# Altium schematic symbol library Resistor_0805.SchLib: 258 symbols (part 4 of 5)
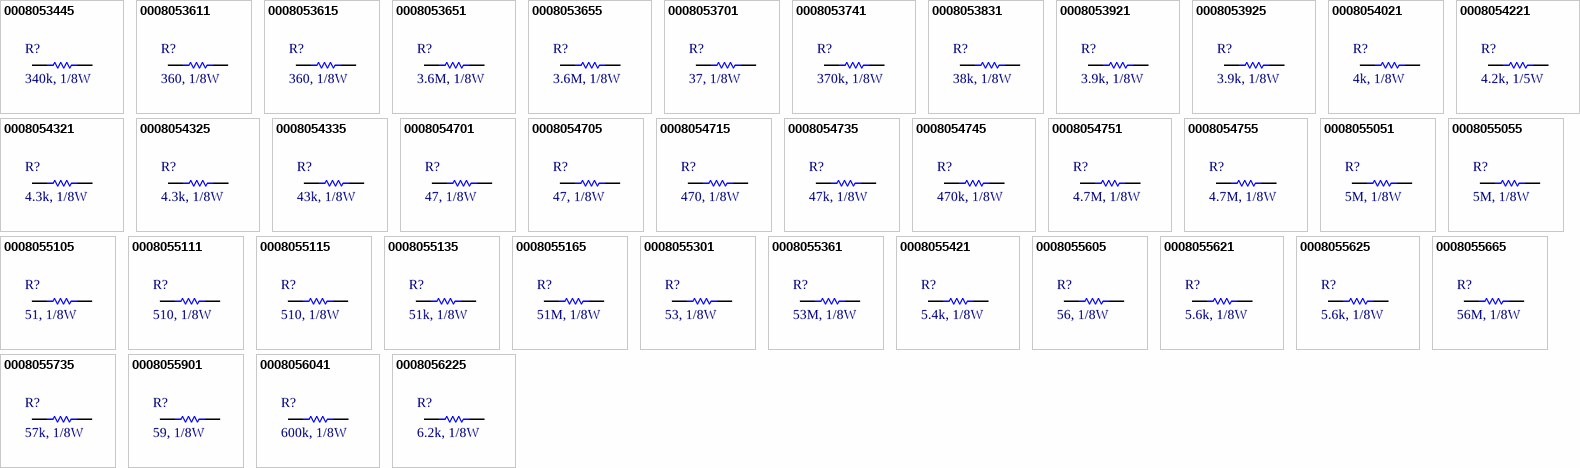
[diagram p9: symbols 0008053445 to 0008056225]

## 0008055055
designator R?, comment 5M, 1/8W
RES, 5M Ohm, size 0805, 5%; Resistance: 5 MOhms; Resistance Tolerance: +/-1%; Supply 1 Name: Mouser; Supply 1 SN: 588-HVC0805T5004JET; Supply 2 Name: Digi-Key; Supply 2 SN: HVC0805T5004JETTR-ND; Supply 3 Name: Thegioiic; Size: 0805; Rated Power: 1/8W; Supply 1 URL: https://www.mouser.vn/ProductDetail/Ohmite/HVC0805T5004JET?qs=IinxsTLir9kGxgRcWz40Rg%3D%3D; Supply 2 URL: https://www.digikey.com/en/products/detail/ohmite/HVC0805T5004JET/2709618?s=N4IgjCBcoMxaBjKAzAhgGwM4FMA0IB7KAbRACYBWABjgF18AHAFyhAGUmAnASwDsBzEAF98YMgE4I0EEkhoseQiRAxxMMgA4Q9EM1YceA4fjJUNFeDJQYc%2BIpFIUABAFkA8gAsAtpm2MWkCAAqrzcTG7ILtiomACunNjCQkJAA; Mounting Technology: SMT; Supply 3 SN: N/A; Supply 3 URL: N/A; Datasheet: N/A; Manufacture  Name: N/A; Manufacture  SN: N/A
footprint RESISTOR_0805 (Chip Resistor, 2-Leads, Body 2,00x1,20mm, IPC Medium Density)
pins: 1, 2

## 0008055105
designator R?, comment 51, 1/8W
RES, 51 Ohm, size 0805, 5%; Resistance: 51 Ohms; Resistance Tolerance: +/-1%; Supply 1 Name: Mouser; Supply 1 SN: 603-AR0805JR-0751RL; Supply 2 Name: Digi-Key; Supply 2 SN: 311-51ARTR-ND; Supply 3 Name: Thegioiic; Size: 0805; Rated Power: 1/8W; Supply 1 URL: https://www.mouser.vn/ProductDetail/YAGEO/AR0805JR-0751RL?qs=FNor9lU6pf8H%252BiQv38MEeQ%3D%3D; Supply 2 URL: https://www.digikey.com/en/products/detail/yageo/RC0805JR-0751RL/728345; Mounting Technology: SMT; Supply 3 SN: N/A; Supply 3 URL: N/A; Datasheet: N/A; Manufacture  Name: N/A; Manufacture  SN: N/A
footprint RESISTOR_0805 (Chip Resistor, 2-Leads, Body 2,00x1,20mm, IPC Medium Density)
pins: 1, 2

## 0008055111
designator R?, comment 510, 1/8W
RES, 510 Ohm, size 0805, 1%; Resistance: 510 Ohms; Resistance Tolerance: +/-1%; Supply 1 Name: Mouser; Supply 1 SN: 755-SFR10EZPF5100; Supply 2 Name: Digi-Key; Supply 2 SN: 311-510ARDKR-ND; Supply 3 Name: Thegioiic; Size: 0805; Rated Power: 1/8W; Supply 1 URL: https://www.mouser.vn/ProductDetail/ROHM-Semiconductor/SFR10EZPF5100?qs=sGAEpiMZZMtlubZbdhIBIONtIqra%2FA5YrlwGIIC%252BgoQ%3D; Supply 2 URL: https://www.digikey.com/en/products/detail/yageo/RC0805JR-07510RL/728343; Mounting Technology: SMT; Supply 3 SN: N/A; Supply 3 URL: N/A; Datasheet: N/A; Manufacture  Name: N/A; Manufacture  SN: N/A
footprint RESISTOR_0805 (Chip Resistor, 2-Leads, Body 2,00x1,20mm, IPC Medium Density)
pins: 1, 2

## 0008055115
designator R?, comment 510, 1/8W
RES, 510 Ohm, size 0805, 5%; Resistance: 510 Ohms; Resistance Tolerance: +/-1%; Supply 1 Name: Mouser; Supply 1 SN: 603-AR0805JR-07510RL; Supply 2 Name: Digi-Key; Supply 2 SN: 311-510ARTR-ND; Supply 3 Name: Thegioiic; Size: 0805; Rated Power: 1/8W; Supply 1 URL: https://www.mouser.vn/ProductDetail/YAGEO/AR0805JR-07510RL?qs=tggtontpCXM60VkCGWdMxQ%3D%3D; Supply 2 URL: https://www.digikey.com/en/products/detail/yageo/RC0805JR-07510RL/728343; Mounting Technology: SMT; Supply 3 SN: N/A; Supply 3 URL: N/A; Datasheet: N/A; Manufacture  Name: N/A; Manufacture  SN: N/A
footprint RESISTOR_0805 (Chip Resistor, 2-Leads, Body 2,00x1,20mm, IPC Medium Density)
pins: 1, 2

## 0008055135
designator R?, comment 51k, 1/8W
RES, 51k Ohm, size 0805, 5%; Resistance: 51 kOhms; Resistance Tolerance: +/-1%; Supply 1 Name: Mouser; Supply 1 SN: 603-AC0805JR-0751KL; Supply 2 Name: Digi-Key; Supply 2 SN: 311-51KARTR-ND; Supply 3 Name: Thegioiic; Size: 0805; Rated Power: 1/8W; Supply 1 URL: https://www.mouser.vn/ProductDetail/YAGEO/AC0805JR-0751KL?qs=ygRr%2FtkhteugpbacGAXg%2FA%3D%3D; Supply 2 URL: https://www.digikey.com/en/products/detail/yageo/RC0805JR-0751KL/728346; Mounting Technology: SMT; Supply 3 SN: N/A; Supply 3 URL: N/A; Datasheet: N/A; Manufacture  Name: N/A; Manufacture  SN: N/A
footprint RESISTOR_0805 (Chip Resistor, 2-Leads, Body 2,00x1,20mm, IPC Medium Density)
pins: 1, 2

## 0008055165
designator R?, comment 51M, 1/8W
RES, 51M Ohm, size 0805, 5%; Resistance: 51 MOhms; Resistance Tolerance: +/-1%; Supply 1 Name: Mouser; Supply 1 SN: 603-RC0805JR-0751ML; Supply 2 Name: Digi-Key; Supply 2 SN: 13-RC0805JR-0751MLTR-ND; Supply 3 Name: Thegioiic; Size: 0805; Rated Power: 1/8W; Supply 1 URL: https://www.mouser.vn/ProductDetail/YAGEO/RC0805JR-0751ML?qs=tggtontpCXNdnbFdxTk8lw%3D%3D; Supply 2 URL: https://www.digikey.com/en/products/detail/yageo/RC0805JR-0751ML/5919068; Mounting Technology: SMT; Supply 3 SN: N/A; Supply 3 URL: N/A; Datasheet: N/A; Manufacture  Name: N/A; Manufacture  SN: N/A
footprint RESISTOR_0805 (Chip Resistor, 2-Leads, Body 2,00x1,20mm, IPC Medium Density)
pins: 1, 2

## 0008055301
designator R?, comment 53, 1/8W
RES, 53 Ohm, size 0805, 1%; Resistance: 53 Ohms; Resistance Tolerance: +/-1%; Supply 1 Name: Mouser; Supply 2 Name: Digi-Key; Supply 2 SN: 2019-RN73R2ATTD53R0F25DKR-ND; Supply 3 Name: Thegioiic; Size: 0805; Rated Power: 1/8W; Supply 1 SN: N/A; Supply 1 URL: N/A; Supply 2 URL: https://www.digikey.com/en/products/detail/koa-speer-electronics-inc/RN73R2ATTD53R0F25/10034310; Mounting Technology: SMT; Supply 3 SN: N/A; Supply 3 URL: N/A; Datasheet: N/A; Manufacture  Name: N/A; Manufacture  SN: N/A
footprint RESISTOR_0805 (Chip Resistor, 2-Leads, Body 2,00x1,20mm, IPC Medium Density)
pins: 1, 2

## 0008055361
designator R?, comment 53M, 1/8W
RES, 53M Ohm, size 0805, 1%; Resistance: 53 MOhms; Resistance Tolerance: +/-1%; Supply 1 Name: Mouser; Supply 1 SN: 652-CR0805FX-4872ELF; Supply 2 Name: Digi-Key; Supply 2 SN: P48.7KCDKR-ND; Supply 3 Name: Thegioiic; Size: 0805; Rated Power: 1/8W; Supply 1 URL: https://www.mouser.vn/ProductDetail/Bourns/CR0805-FX-4872ELF?qs=sGAEpiMZZMtlubZbdhIBIL%252BKkaYz7rs3OXEDnL6C198%3D; Supply 2 URL: https://www.digikey.com/en/products/detail/panasonic-electronic-components/ERJ-6ENF4872V/111609; Mounting Technology: SMT; Supply 3 SN: N/A; Supply 3 URL: N/A; Datasheet: N/A; Manufacture  Name: N/A; Manufacture  SN: N/A
footprint RESISTOR_0805 (Chip Resistor, 2-Leads, Body 2,00x1,20mm, IPC Medium Density)
pins: 1, 2

## 0008055421
designator R?, comment 5.4k, 1/8W
RES, 5.4k Ohm, size 0805, 1%; Resistance: 5.4 kOhms; Resistance Tolerance: +/-1%; Supply 1 Name: Mouser; Supply 1 SN: 652-CR0805FX-4872ELF; Supply 2 Name: Digi-Key; Supply 2 SN: P48.7KCDKR-ND; Supply 3 Name: Thegioiic; Size: 0805; Rated Power: 1/8W; Supply 1 URL: https://www.mouser.vn/ProductDetail/Bourns/CR0805-FX-4872ELF?qs=sGAEpiMZZMtlubZbdhIBIL%252BKkaYz7rs3OXEDnL6C198%3D; Supply 2 URL: https://www.digikey.com/en/products/detail/panasonic-electronic-components/ERJ-6ENF4872V/111609; Mounting Technology: SMT; Supply 3 SN: N/A; Supply 3 URL: N/A; Datasheet: N/A; Manufacture  Name: N/A; Manufacture  SN: N/A
footprint RESISTOR_0805 (Chip Resistor, 2-Leads, Body 2,00x1,20mm, IPC Medium Density)
pins: 1, 2

## 0008055605
designator R?, comment 56, 1/8W
RES, 56 Ohm, size 0805, 5%; Resistance: 56 Ohms; Resistance Tolerance: +/-1%; Supply 1 Name: Mouser; Supply 1 SN: 603-AR0805JR-0756RL; Supply 2 Name: Digi-Key; Supply 2 SN: 311-56ARTR-ND; Supply 3 Name: Thegioiic; Size: 0805; Rated Power: 1/8W; Supply 1 URL: https://www.mouser.vn/ProductDetail/YAGEO/AR0805JR-0756RL?qs=tub3WQyKOl952gLjMEPqLg%3D%3D; Supply 2 URL: https://www.digikey.com/en/products/detail/yageo/RC0805JR-0756RL/728349; Mounting Technology: SMT; Supply 3 SN: N/A; Supply 3 URL: N/A; Datasheet: N/A; Manufacture  Name: N/A; Manufacture  SN: N/A
footprint RESISTOR_0805 (Chip Resistor, 2-Leads, Body 2,00x1,20mm, IPC Medium Density)
pins: 1, 2

## 0008055621
designator R?, comment 5.6k, 1/8W
RES, 5.6k Ohm, size 0805, 1%; Resistance: 5.6 kOhms; Resistance Tolerance: +/-1%; Supply 1 Name: Mouser; Supply 1 SN: 667-ERJ-S06F5601V; Supply 2 Name: Digi-Key; Supply 2 SN: 311-5.60KCRDKR-ND; Supply 3 Name: Thegioiic; Size: 0805; Rated Power: 1/8W; Supply 1 URL: https://www.mouser.vn/ProductDetail/Panasonic/ERJ-S06F5601V?qs=sGAEpiMZZMtlubZbdhIBINuoixIUl6fxKooJ9AKHR88%3D; Supply 2 URL: https://www.digikey.com/en/products/detail/yageo/RC0805FR-075K6L/728002; Mounting Technology: SMT; Supply 3 SN: N/A; Supply 3 URL: N/A; Datasheet: N/A; Manufacture  Name: N/A; Manufacture  SN: N/A
footprint RESISTOR_0805 (Chip Resistor, 2-Leads, Body 2,00x1,20mm, IPC Medium Density)
pins: 1, 2

## 0008055625
designator R?, comment 5.6k, 1/8W
RES, 5.6k Ohm, size 0805, 5%; Resistance: 5.6 kOhms; Resistance Tolerance: +/-1%; Supply 1 Name: Mouser; Supply 1 SN: 603-RC0805JR-075K6L; Supply 2 Name: Digi-Key; Supply 2 SN: 311-5.6KARTR-ND; Supply 3 Name: Thegioiic; Size: 0805; Rated Power: 1/8W; Supply 1 URL: https://www.mouser.vn/ProductDetail/YAGEO/RC0805JR-075K6L?qs=KyGMWp10Uku18wTu%252ByPOBA%3D%3D; Supply 2 URL: https://www.digikey.com/en/products/detail/yageo/RC0805JR-075K6L/728341; Mounting Technology: SMT; Supply 3 SN: N/A; Supply 3 URL: N/A; Datasheet: N/A; Manufacture  Name: N/A; Manufacture  SN: N/A
footprint RESISTOR_0805 (Chip Resistor, 2-Leads, Body 2,00x1,20mm, IPC Medium Density)
pins: 1, 2

## 0008055665
designator R?, comment 56M, 1/8W
RES, 56M Ohm, size 0805, 5%; Resistance: 56 MOhms; Resistance Tolerance: +/-1%; Supply 1 Name: Mouser; Supply 1 SN: 603-RC0805JR-0756ML; Supply 2 Name: Digi-Key; Supply 2 SN: 13-RC0805JR-0756MLTR-ND; Supply 3 Name: Thegioiic; Size: 0805; Rated Power: 1/8W; Supply 1 URL: https://www.mouser.vn/ProductDetail/YAGEO/RC0805JR-0756ML?qs=fRxXYNj8ftHNqM0XV2acwg%3D%3D; Supply 2 URL: https://www.digikey.com/en/products/detail/yageo/RC0805JR-0756ML/5919069; Mounting Technology: SMT; Supply 3 SN: N/A; Supply 3 URL: N/A; Datasheet: N/A; Manufacture  Name: N/A; Manufacture  SN: N/A
footprint RESISTOR_0805 (Chip Resistor, 2-Leads, Body 2,00x1,20mm, IPC Medium Density)
pins: 1, 2

## 0008055735
designator R?, comment 57k, 1/8W
RES, 57k Ohm, size 0805, 5%; Resistance: 57 kOhms; Resistance Tolerance: +/-1%; Supply 1 Name: Mouser; Supply 2 Name: Digi-Key; Supply 2 SN: CRCW080557K0JNTA-ND; Supply 3 Name: Thegioiic; Size: 0805; Rated Power: 1/8W; Supply 1 SN: N/A; Supply 1 URL: N/A; Supply 2 URL: https://www.digikey.com/en/products/detail/vishay-dale/CRCW080557K0JNTA/5075645?s=N4IgjCBcoMxaBjKAzAhgGwM4FMA0IB7KAbRACYBWABjgF18AHAFyhAGUmAnASwDsBzEAF98YMgE4I0EEkhoseQiRAxxMMgA4Q9EM1YceA4fjJUNFeDJQYc%2BIpFIUA7AAIA1gHkAFgFtM2xhZIEABVXm4mD2QAWWxUTABXTmxhISEgA; Mounting Technology: SMT; Supply 3 SN: N/A; Supply 3 URL: N/A; Datasheet: N/A; Manufacture  Name: N/A; Manufacture  SN: N/A
footprint RESISTOR_0805 (Chip Resistor, 2-Leads, Body 2,00x1,20mm, IPC Medium Density)
pins: 1, 2

## 0008055901
designator R?, comment 59, 1/8W
RES, 59 Ohm, size 0805, 1%; Resistance: 59 Ohms; Resistance Tolerance: +/-1%; Supply 1 Name: Mouser; Supply 1 SN: 652-CR0805FX-59R0ELF; Supply 2 Name: Digi-Key; Supply 2 SN: 311-59.0CRDKR-ND; Supply 3 Name: Thegioiic; Size: 0805; Rated Power: 1/8W; Supply 1 URL: https://www.mouser.vn/ProductDetail/Bourns/CR0805-FX-59R0ELF?qs=sGAEpiMZZMtlubZbdhIBIL%252BKkaYz7rs3UvNcgONvTgQ%3D; Supply 2 URL: https://www.digikey.com/en/products/detail/yageo/RC0805FR-0759RL/728044; Mounting Technology: SMT; Supply 3 SN: N/A; Supply 3 URL: N/A; Datasheet: N/A; Manufacture  Name: N/A; Manufacture  SN: N/A
footprint RESISTOR_0805 (Chip Resistor, 2-Leads, Body 2,00x1,20mm, IPC Medium Density)
pins: 1, 2

## 0008056041
designator R?, comment 600k, 1/8W
RES, 600k Ohm, size 0805, 1%; Resistance: 600 kOhms; Resistance Tolerance: +/-1%; Supply 1 Name: Mouser; Supply 1 SN: 603-RT0805FRE07604KL; Supply 2 Name: Digi-Key; Supply 2 SN: 311-604KCRTR-ND; Supply 3 Name: Thegioiic; Size: 0805; Rated Power: 1/8W; Supply 1 URL: https://www.mouser.vn/ProductDetail/YAGEO/RT0805FRE07604KL?qs=4CyHz7GXqShQoD1ZPz9cuQ%3D%3D; Supply 2 URL: https://www.digikey.com/en/products/detail/yageo/RC0805FR-07604KL/728076; Mounting Technology: SMT; Supply 3 SN: N/A; Supply 3 URL: N/A; Datasheet: N/A; Manufacture  Name: N/A; Manufacture  SN: N/A
footprint RESISTOR_0805 (Chip Resistor, 2-Leads, Body 2,00x1,20mm, IPC Medium Density)
pins: 1, 2

## 0008056225
designator R?, comment 6.2k, 1/8W
RES, 6.2k Ohm, size 0805, 5%; Resistance: 6.2 kOhms; Resistance Tolerance: +/-1%; Supply 1 Name: Mouser; Supply 1 SN: 603-AR0805JR-076K2L; Supply 2 Name: Digi-Key; Supply 2 SN: 311-6.2KARTR-ND; Supply 3 Name: Thegioiic; Size: 0805; Rated Power: 1/8W; Supply 1 URL: https://www.mouser.vn/ProductDetail/YAGEO/AR0805JR-076K2L?qs=tub3WQyKOl9JDoG6%2FuCsdg%3D%3D; Supply 2 URL: https://www.digikey.com/en/products/detail/yageo/RC0805JR-076K2L/728352; Mounting Technology: SMT; Supply 3 SN: N/A; Supply 3 URL: N/A; Datasheet: N/A; Manufacture  Name: N/A; Manufacture  SN: N/A
footprint RESISTOR_0805 (Chip Resistor, 2-Leads, Body 2,00x1,20mm, IPC Medium Density)
pins: 1, 2

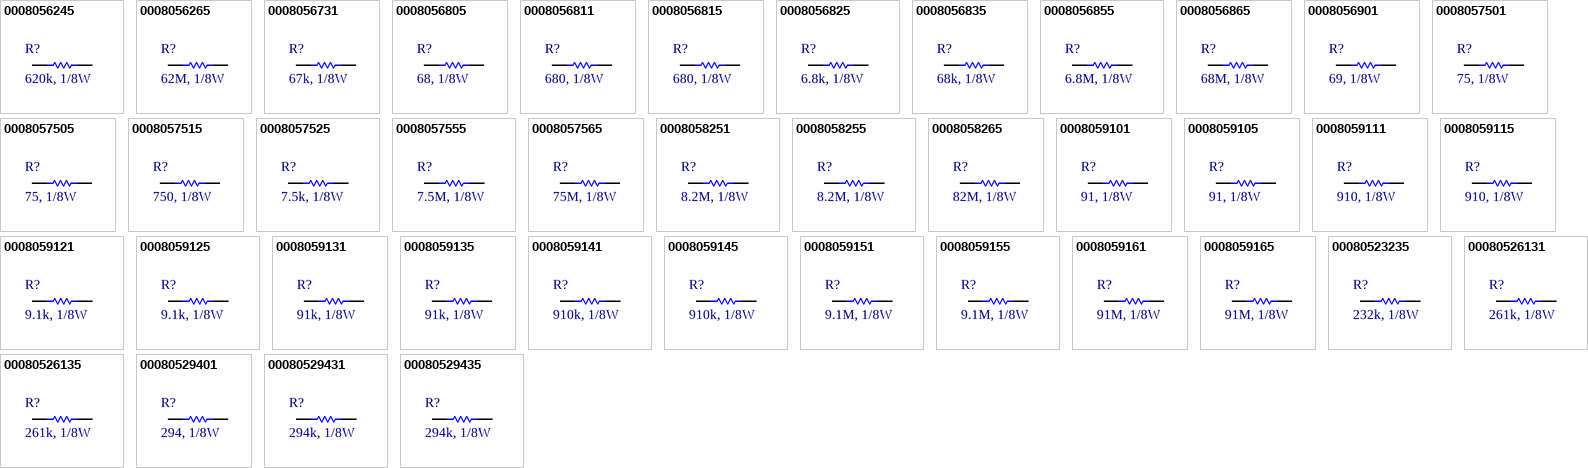
[diagram p5: symbols 0008056245 to 00080529435]

## 0008056245
designator R?, comment 620k, 1/8W
RES, 620k Ohm, size 0805, 5%; Resistance: 620 kOhms; Resistance Tolerance: +/-1%; Supply 1 Name: Mouser; Supply 1 SN: 603-RC0805JR-07620KL; Supply 2 Name: Digi-Key; Supply 2 SN: 311-620KARTR-ND; Supply 3 Name: Thegioiic; Size: 0805; Rated Power: 1/8W; Supply 1 URL: https://www.mouser.vn/ProductDetail/YAGEO/RC0805JR-07620KL?qs=fRxXYNj8ftEPHa535%252B%252BhjA%3D%3D; Supply 2 URL: https://www.digikey.com/en/products/detail/yageo/RC0805JR-07620KL/728358; Mounting Technology: SMT; Supply 3 SN: N/A; Supply 3 URL: N/A; Datasheet: N/A; Manufacture  Name: N/A; Manufacture  SN: N/A
footprint RESISTOR_0805 (Chip Resistor, 2-Leads, Body 2,00x1,20mm, IPC Medium Density)
pins: 1, 2

## 0008056265
designator R?, comment 62M, 1/8W
RES, 62M Ohm, size 0805, 5%; Resistance: 62 MOhms; Resistance Tolerance: +/-1%; Supply 1 Name: Mouser; Supply 1 SN: 603-RC0805JR-0762ML; Supply 2 Name: Digi-Key; Supply 2 SN: RC0805JR-0762ML-ND; Supply 3 Name: Thegioiic; Size: 0805; Rated Power: 1/8W; Supply 1 URL: https://www.mouser.vn/ProductDetail/YAGEO/RC0805JR-0762ML?qs=tggtontpCXNKJF4OOPtvwQ%3D%3D; Supply 2 URL: https://www.digikey.com/en/products/detail/yageo/RC0805JR-0762ML/5919070; Mounting Technology: SMT; Supply 3 SN: N/A; Supply 3 URL: N/A; Datasheet: N/A; Manufacture  Name: N/A; Manufacture  SN: N/A
footprint RESISTOR_0805 (Chip Resistor, 2-Leads, Body 2,00x1,20mm, IPC Medium Density)
pins: 1, 2

## 0008056731
designator R?, comment 67k, 1/8W
RES, 67k Ohm, size 0805, 1%; Resistance: 67 kOhms; Resistance Tolerance: +/-1%; Supply 1 Name: Mouser; Supply 2 Name: Digi-Key; Supply 2 SN: CRCW080567K0FKTA-ND; Supply 3 Name: Thegioiic; Size: 0805; Rated Power: 1/8W; Supply 1 SN: N/A; Supply 1 URL: N/A; Supply 2 URL: https://www.digikey.com/en/products/detail/vishay-dale/CRCW080567K0FKTA/5075822?s=N4IgjCBcoMxaBjKAzAhgGwM4FMA0IB7KAbXDBggF18AHAFyhAGU6AnASwDsBzEAX3xgATAE4I0EEkhoseQiRAwRMIQA4Q1EPUYsOPfviEAGVQFZ4klBhz4ikUgDYA7AAIA1gHkAFgFtMG2gZIEABVTnY6D2QAWWxUTABXVmx%2BPj4gA; Mounting Technology: SMT; Supply 3 SN: N/A; Supply 3 URL: N/A; Datasheet: N/A; Manufacture  Name: N/A; Manufacture  SN: N/A
footprint RESISTOR_0805 (Chip Resistor, 2-Leads, Body 2,00x1,20mm, IPC Medium Density)
pins: 1, 2

## 0008056805
designator R?, comment 68, 1/8W
RES, 68 Ohm, size 0805, 5%; Resistance: 68 Ohms; Resistance Tolerance: +/-1%; Supply 1 Name: Mouser; Supply 1 SN: 603-AR0805JR-0768RL; Supply 2 Name: Digi-Key; Supply 2 SN: 311-68ARTR-ND; Supply 3 Name: Thegioiic; Size: 0805; Rated Power: 1/8W; Supply 1 URL: https://www.mouser.vn/ProductDetail/YAGEO/AR0805JR-0768RL?qs=tub3WQyKOl%252BOpPfup6Oz7w%3D%3D; Supply 2 URL: https://www.digikey.com/en/products/detail/yageo/RC0805JR-0768RL/728363; Mounting Technology: SMT; Supply 3 SN: N/A; Supply 3 URL: N/A; Datasheet: N/A; Manufacture  Name: N/A; Manufacture  SN: N/A
footprint RESISTOR_0805 (Chip Resistor, 2-Leads, Body 2,00x1,20mm, IPC Medium Density)
pins: 1, 2

## 0008056811
designator R?, comment 680, 1/8W
RES, 680 Ohm, size 0805, 1%; Resistance: 680 Ohms; Resistance Tolerance: +/-1%; Supply 1 Name: Mouser; Supply 1 SN: 603-RT0805FRE13680RL; Supply 2 Name: Digi-Key; Supply 2 SN: 311-680CRTR-ND; Supply 3 Name: Thegioiic; Size: 0805; Rated Power: 1/8W; Supply 1 URL: https://www.mouser.vn/ProductDetail/YAGEO/RT0805FRE13680RL?qs=1mbolxNpo8eGpxdYBPJieA%3D%3D; Supply 2 URL: https://www.digikey.com/en/products/detail/yageo/RC0805FR-07680RL/728101; Mounting Technology: SMT; Supply 3 SN: N/A; Supply 3 URL: N/A; Datasheet: N/A; Manufacture  Name: N/A; Manufacture  SN: N/A
footprint RESISTOR_0805 (Chip Resistor, 2-Leads, Body 2,00x1,20mm, IPC Medium Density)
pins: 1, 2

## 0008056815
designator R?, comment 680, 1/8W
RES, 680 Ohm, size 0805, 5%; Resistance: 680 Ohms; Resistance Tolerance: +/-1%; Supply 1 Name: Mouser; Supply 1 SN: 603-AR0805JR-07680RL; Supply 2 Name: Digi-Key; Supply 2 SN: 311-680ARTR-ND; Supply 3 Name: Thegioiic; Size: 0805; Rated Power: 1/8W; Supply 1 URL: https://www.mouser.vn/ProductDetail/YAGEO/AR0805JR-07680RL?qs=tub3WQyKOl9Nj7q7zlrhwQ%3D%3D; Supply 2 URL: https://www.digikey.com/en/products/detail/yageo/RC0805JR-07680RL/728361; Mounting Technology: SMT; Supply 3 SN: N/A; Supply 3 URL: N/A; Datasheet: N/A; Manufacture  Name: N/A; Manufacture  SN: N/A
footprint RESISTOR_0805 (Chip Resistor, 2-Leads, Body 2,00x1,20mm, IPC Medium Density)
pins: 1, 2

## 0008056825
designator R?, comment 6.8k, 1/8W
RES, 6.8k Ohm, size 0805, 5%; Resistance: 6.8 kOhms; Resistance Tolerance: +/-1%; Supply 1 Name: Mouser; Supply 1 SN: 603-RC0805JR-7W6K8L; Supply 2 Name: Digi-Key; Supply 2 SN: 311-6.8KARTR-ND; Supply 3 Name: Thegioiic; Size: 0805; Rated Power: 1/8W; Supply 1 URL: https://www.mouser.vn/ProductDetail/YAGEO/RC0805JR-7W6K8L?qs=NgbZBzc1CyFHZaJSBAwTGw%3D%3D; Supply 2 URL: https://www.digikey.com/en/products/detail/yageo/RC0805JR-076K8L/728355; Mounting Technology: SMT; Supply 3 SN: N/A; Supply 3 URL: N/A; Datasheet: N/A; Manufacture  Name: N/A; Manufacture  SN: N/A
footprint RESISTOR_0805 (Chip Resistor, 2-Leads, Body 2,00x1,20mm, IPC Medium Density)
pins: 1, 2

## 0008056835
designator R?, comment 68k, 1/8W
RES, 68k Ohm, size 0805, 5%; Resistance: 68 kOhms; Resistance Tolerance: +/-1%; Supply 1 Name: Mouser; Supply 1 SN: 71-CRCW0805J-68K; Supply 2 Name: Digi-Key; Supply 2 SN: 311-68KARTR-ND; Supply 3 Name: Thegioiic; Size: 0805; Rated Power: 1/8W; Supply 1 URL: https://www.mouser.vn/ProductDetail/Vishay-Dale/CRCW080568K0JNTA?qs=nQS51YdobUZaOBJTD9nqEw%3D%3D; Supply 2 URL: https://www.digikey.com/en/products/detail/yageo/RC0805JR-0768KL/728364; Mounting Technology: SMT; Supply 3 SN: N/A; Supply 3 URL: N/A; Datasheet: N/A; Manufacture  Name: N/A; Manufacture  SN: N/A
footprint RESISTOR_0805 (Chip Resistor, 2-Leads, Body 2,00x1,20mm, IPC Medium Density)
pins: 1, 2

## 0008056855
designator R?, comment 6.8M, 1/8W
RES, 6.8M Ohm, size 0805, 5%; Resistance: 6.8 MOhms; Resistance Tolerance: +/-1%; Supply 1 Name: Mouser; Supply 1 SN: 603-RC0805JR-076M8L; Supply 2 Name: Digi-Key; Supply 2 SN: 311-6.8MARTR-ND; Supply 3 Name: Thegioiic; Size: 0805; Rated Power: 1/8W; Supply 1 URL: https://www.mouser.vn/ProductDetail/YAGEO/RC0805JR-076M8L?qs=fRxXYNj8ftHTATc%2FfMlhgw%3D%3D; Supply 2 URL: https://www.digikey.com/en/products/detail/yageo/RC0805JR-076M8L/728356; Mounting Technology: SMT; Supply 3 SN: N/A; Supply 3 URL: N/A; Datasheet: N/A; Manufacture  Name: N/A; Manufacture  SN: N/A
footprint RESISTOR_0805 (Chip Resistor, 2-Leads, Body 2,00x1,20mm, IPC Medium Density)
pins: 1, 2

## 0008056865
designator R?, comment 68M, 1/8W
RES, 68M Ohm, size 0805, 5%; Resistance: 68 MOhms; Resistance Tolerance: +/-1%; Supply 1 Name: Mouser; Supply 1 SN: 603-RC0805JR-1368ML; Supply 2 Name: Digi-Key; Supply 2 SN: 13-RC0805JR-0768MLTR-ND; Supply 3 Name: Thegioiic; Size: 0805; Rated Power: 1/8W; Supply 1 URL: https://www.mouser.vn/ProductDetail/YAGEO/RC0805JR-1368ML?qs=T8x3LFb0A0T4wMo1k5YNtw%3D%3D; Supply 2 URL: https://www.digikey.com/en/products/detail/yageo/RC0805JR-0768ML/5919071; Mounting Technology: SMT; Supply 3 SN: N/A; Supply 3 URL: N/A; Datasheet: N/A; Manufacture  Name: N/A; Manufacture  SN: N/A
footprint RESISTOR_0805 (Chip Resistor, 2-Leads, Body 2,00x1,20mm, IPC Medium Density)
pins: 1, 2

## 0008056901
designator R?, comment 69, 1/8W
RES, 69 Ohm, size 0805, 1%; Resistance: 69 Ohms; Resistance Tolerance: +/-1%; Supply 1 Name: Mouser; Supply 2 Name: Digi-Key; Supply 2 SN: 2019-RN73R2ATTD69R0F100TR-ND; Supply 3 Name: Thegioiic; Size: 0805; Rated Power: 1/8W; Supply 1 SN: N/A; Supply 1 URL: N/A; Supply 2 URL: https://www.digikey.com/en/products/detail/koa-speer-electronics-inc/RN73R2ATTD69R0F100/10036308; Mounting Technology: SMT; Supply 3 SN: N/A; Supply 3 URL: N/A; Datasheet: N/A; Manufacture  Name: N/A; Manufacture  SN: N/A
footprint RESISTOR_0805 (Chip Resistor, 2-Leads, Body 2,00x1,20mm, IPC Medium Density)
pins: 1, 2

## 0008057501
designator R?, comment 75, 1/8W
RES, 75 Ohm, size 0805, 1%; Resistance: 75 Ohms; Resistance Tolerance: +/-1%; Supply 1 Name: Mouser; Supply 1 SN: 603-RT0805FRE0775RL; Supply 2 Name: Digi-Key; Supply 2 SN: 311-75.0CRTR-ND; Supply 3 Name: Thegioiic; Size: 0805; Rated Power: 1/8W; Supply 1 URL: https://www.mouser.vn/ProductDetail/YAGEO/RT0805FRE0775RL?qs=yNCrj0CQcyKAzvrIltP2ow%3D%3D; Supply 2 URL: https://www.digikey.com/en/products/detail/yageo/RC0805FR-0775RL/728132; Mounting Technology: SMT; Supply 3 SN: N/A; Supply 3 URL: N/A; Datasheet: N/A; Manufacture  Name: N/A; Manufacture  SN: N/A
footprint RESISTOR_0805 (Chip Resistor, 2-Leads, Body 2,00x1,20mm, IPC Medium Density)
pins: 1, 2

## 0008057505
designator R?, comment 75, 1/8W
RES, 75 Ohm, size 0805, 5%; Resistance: 75 Ohms; Resistance Tolerance: +/-1%; Supply 1 Name: Mouser; Supply 1 SN: 603-RC0805JR-0775RL; Supply 2 Name: Digi-Key; Supply 2 SN: 311-75ARTR-ND; Supply 3 Name: Thegioiic; Size: 0805; Rated Power: 1/8W; Supply 1 URL: https://www.mouser.vn/ProductDetail/YAGEO/RC0805JR-0775RL?qs=fRxXYNj8ftE7wS9ni6fn7Q%3D%3D; Supply 2 URL: https://www.digikey.com/en/products/detail/yageo/RC0805JR-0775RL/728370; Mounting Technology: SMT; Supply 3 SN: N/A; Supply 3 URL: N/A; Datasheet: N/A; Manufacture  Name: N/A; Manufacture  SN: N/A
footprint RESISTOR_0805 (Chip Resistor, 2-Leads, Body 2,00x1,20mm, IPC Medium Density)
pins: 1, 2

## 0008057515
designator R?, comment 750, 1/8W
RES, 750 Ohm, size 0805, 5%; Resistance: 750 Ohms; Resistance Tolerance: +/-1%; Supply 1 Name: Mouser; Supply 1 SN: 603-AC0805JR-07750RL; Supply 2 Name: Digi-Key; Supply 2 SN: 311-750ARTR-ND; Supply 3 Name: Thegioiic; Size: 0805; Rated Power: 1/8W; Supply 1 URL: https://www.mouser.vn/ProductDetail/YAGEO/AC0805JR-07750RL?qs=TI15CVqcli0njTnSkpn%2FJw%3D%3D; Supply 2 URL: https://www.digikey.com/en/products/detail/yageo/RC0805JR-07750RL/728368; Mounting Technology: SMT; Supply 3 SN: N/A; Supply 3 URL: N/A; Datasheet: N/A; Manufacture  Name: N/A; Manufacture  SN: N/A
footprint RESISTOR_0805 (Chip Resistor, 2-Leads, Body 2,00x1,20mm, IPC Medium Density)
pins: 1, 2

## 0008057525
designator R?, comment 7.5k, 1/8W
RES, 7.5k Ohm, size 0805, 5%; Resistance: 7.5 kOhms; Resistance Tolerance: +/-1%; Supply 1 Name: Mouser; Supply 1 SN: 71-CRCW08057K50JNEAC; Supply 2 Name: Digi-Key; Supply 2 SN: 311-7.5KARTR-ND; Supply 3 Name: Thegioiic; Size: 0805; Rated Power: 1/8W; Supply 1 URL: https://www.mouser.vn/ProductDetail/Vishay-Dale/CRCW08057K50JNEAC?qs=E3Y5ESvWgWPPvB89PkrkFA%3D%3D; Supply 2 URL: https://www.digikey.com/en/products/detail/yageo/RC0805JR-077K5L/728366; Mounting Technology: SMT; Supply 3 SN: N/A; Supply 3 URL: N/A; Datasheet: N/A; Manufacture  Name: N/A; Manufacture  SN: N/A
footprint RESISTOR_0805 (Chip Resistor, 2-Leads, Body 2,00x1,20mm, IPC Medium Density)
pins: 1, 2

## 0008057555
designator R?, comment 7.5M, 1/8W
RES, 7.5M Ohm, size 0805, 5%; Resistance: 7.5 MOhms; Resistance Tolerance: +/-1%; Supply 1 Name: Mouser; Supply 1 SN: 71-CRCW08057M50JNEA; Supply 2 Name: Digi-Key; Supply 2 SN: 311-7.5MARTR-ND; Supply 3 Name: Thegioiic; Size: 0805; Rated Power: 1/8W; Supply 1 URL: https://www.mouser.vn/ProductDetail/Vishay-Dale/CRCW08057M50JNEA?qs=3kMMNJ4TLu3zaDvEVm8fsw%3D%3D; Supply 2 URL: https://www.digikey.com/en/products/detail/yageo/RC0805JR-077M5L/728367; Mounting Technology: SMT; Supply 3 SN: N/A; Supply 3 URL: N/A; Datasheet: N/A; Manufacture  Name: N/A; Manufacture  SN: N/A
footprint RESISTOR_0805 (Chip Resistor, 2-Leads, Body 2,00x1,20mm, IPC Medium Density)
pins: 1, 2

## 0008057565
designator R?, comment 75M, 1/8W
RES, 75M Ohm, size 0805, 5%; Resistance: 75 MOhms; Resistance Tolerance: +/-1%; Supply 1 Name: Mouser; Supply 1 SN: 603-RC0805JR-0775ML; Supply 2 Name: Digi-Key; Supply 2 SN: RC0805JR-0775ML-ND; Supply 3 Name: Thegioiic; Size: 0805; Rated Power: 1/8W; Supply 1 URL: https://www.mouser.vn/ProductDetail/YAGEO/RC0805JR-0775ML?qs=tggtontpCXNahOr45CxKUg%3D%3D; Supply 2 URL: https://www.digikey.com/en/products/detail/yageo/RC0805JR-0775ML/5919072; Mounting Technology: SMT; Supply 3 SN: N/A; Supply 3 URL: N/A; Datasheet: N/A; Manufacture  Name: N/A; Manufacture  SN: N/A
footprint RESISTOR_0805 (Chip Resistor, 2-Leads, Body 2,00x1,20mm, IPC Medium Density)
pins: 1, 2

## 0008058251
designator R?, comment 8.2M, 1/8W
RES, 8.2M Ohm, size 0805, 1%; Resistance: 8.2 MOhms; Resistance Tolerance: +/-1%; Supply 1 Name: Mouser; Supply 2 Name: Digi-Key; Supply 2 SN: 13-RC0805FR-078M2LTR-ND; Supply 3 Name: Thegioiic; Size: 0805; Rated Power: 1/8W; Supply 1 SN: N/A; Supply 1 URL: N/A; Supply 2 URL: https://www.digikey.com/en/products/detail/yageo/RC0805FR-078M2L/5919049; Mounting Technology: SMT; Supply 3 SN: N/A; Supply 3 URL: N/A; Datasheet: N/A; Manufacture  Name: N/A; Manufacture  SN: N/A
footprint RESISTOR_0805 (Chip Resistor, 2-Leads, Body 2,00x1,20mm, IPC Medium Density)
pins: 1, 2

## 0008058255
designator R?, comment 8.2M, 1/8W
RES, 8.2M Ohm, size 0805, 5%; Resistance: 8.2M Ohms; Resistance Tolerance: +/-1%; Supply 1 Name: Mouser; Supply 1 SN: 652-CR0805JW-825ELF; Supply 2 Name: Digi-Key; Supply 2 SN: 311-8.2MARTR-ND; Supply 3 Name: Thegioiic; Size: 0805; Rated Power: 1/8W; Supply 1 URL: https://www.mouser.vn/ProductDetail/Bourns/CR0805-JW-825ELF?qs=3wWX5hyYeeTFo4Cuu04AFA%3D%3D; Supply 2 URL: https://www.digikey.com/en/products/detail/yageo/RC0805JR-078M2L/728374; Mounting Technology: SMT; Supply 3 SN: N/A; Supply 3 URL: N/A; Datasheet: N/A; Manufacture  Name: N/A; Manufacture  SN: N/A
footprint RESISTOR_0805 (Chip Resistor, 2-Leads, Body 2,00x1,20mm, IPC Medium Density)
pins: 1, 2

## 0008058265
designator R?, comment 82M, 1/8W
RES, 82M Ohm, size 0805, 5%; Resistance: 82M Ohms; Resistance Tolerance: +/-1%; Supply 1 Name: Mouser; Supply 1 SN: 603-RC0805JR-1382ML; Supply 2 Name: Digi-Key; Supply 2 SN: 311-75ARTR-ND; Supply 3 Name: Thegioiic; Size: 0805; Rated Power: 1/8W; Supply 1 URL: https://www.mouser.vn/ProductDetail/YAGEO/RC0805JR-1382ML?qs=k5Usg7mMyeD4ir7b8mjLXg%3D%3D; Supply 2 URL: https://www.digikey.com/en/products/detail/yageo/RC0805JR-0775RL/728370; Mounting Technology: SMT; Supply 3 SN: N/A; Supply 3 URL: N/A; Datasheet: N/A; Manufacture  Name: N/A; Manufacture  SN: N/A
footprint RESISTOR_0805 (Chip Resistor, 2-Leads, Body 2,00x1,20mm, IPC Medium Density)
pins: 1, 2

## 0008059101
designator R?, comment 91, 1/8W
RES, 91 Ohm, size 0805, 1%; Resistance: 91 Ohms; Resistance Tolerance: +/-1%; Supply 1 Name: Mouser; Supply 1 SN: 603-RC0805FR-0791RL; Supply 2 Name: Digi-Key; Supply 2 SN: 311-91.0CRTR-ND; Supply 3 Name: Thegioiic; Size: 0805; Rated Power: 1/8W; Supply 1 URL: https://www.mouser.vn/ProductDetail/YAGEO/RC0805FR-0791RL?qs=g6xwsc4j%252B%2Fp%2FT%2FNAjeTsEA%3D%3D; Supply 2 URL: https://www.digikey.com/en/products/detail/yageo/RC0805FR-0791RL/728201; Mounting Technology: SMT; Supply 3 SN: N/A; Supply 3 URL: N/A; Datasheet: N/A; Manufacture  Name: N/A; Manufacture  SN: N/A
footprint RESISTOR_0805 (Chip Resistor, 2-Leads, Body 2,00x1,20mm, IPC Medium Density)
pins: 1, 2

## 0008059105
designator R?, comment 91, 1/8W
RES, 91 Ohm, size 0805, 5%; Resistance: 91 Ohms; Resistance Tolerance: +/-1%; Supply 1 Name: Mouser; Supply 1 SN: 603-RC0805JR-0791RL; Supply 2 Name: Digi-Key; Supply 2 SN: 311-91ARTR-ND; Supply 3 Name: Thegioiic; Size: 0805; Rated Power: 1/8W; Supply 1 URL: https://www.mouser.vn/ProductDetail/YAGEO/RC0805JR-0791RL?qs=fRxXYNj8ftF6WLOxKQFHYw%3D%3D; Supply 2 URL: https://www.digikey.com/en/products/detail/yageo/RC0805JR-0791RL/728384; Mounting Technology: SMT; Supply 3 SN: N/A; Supply 3 URL: N/A; Datasheet: N/A; Manufacture  Name: N/A; Manufacture  SN: N/A
footprint RESISTOR_0805 (Chip Resistor, 2-Leads, Body 2,00x1,20mm, IPC Medium Density)
pins: 1, 2

## 0008059111
designator R?, comment 910, 1/8W
RES, 910 Ohm, size 0805, 1%; Resistance: 910 Ohms; Resistance Tolerance: +/-1%; Supply 1 Name: Mouser; Supply 1 SN: 603-RC0805FR-07910RL; Supply 2 Name: Digi-Key; Supply 2 SN: 311-910CRTR-ND; Supply 3 Name: Thegioiic; Size: 0805; Rated Power: 1/8W; Supply 1 URL: https://www.mouser.vn/ProductDetail/YAGEO/RC0805FR-07910RL?qs=g6xwsc4j%252B%2FoZ2NamZOKACA%3D%3D; Supply 2 URL: https://www.digikey.com/en/products/detail/yageo/RC0805FR-07910RL/728203; Mounting Technology: SMT; Supply 3 SN: N/A; Supply 3 URL: N/A; Datasheet: N/A; Manufacture  Name: N/A; Manufacture  SN: N/A
footprint RESISTOR_0805 (Chip Resistor, 2-Leads, Body 2,00x1,20mm, IPC Medium Density)
pins: 1, 2

## 0008059115
designator R?, comment 910, 1/8W
RES, 910 Ohm, size 0805, 5%; Resistance: 910 Ohms; Resistance Tolerance: +/-1%; Supply 1 Name: Mouser; Supply 1 SN: 603-AC0805JR-07910RL; Supply 2 Name: Digi-Key; Supply 2 SN: 311-910ARTR-ND; Supply 3 Name: Thegioiic; Size: 0805; Rated Power: 1/8W; Supply 1 URL: https://www.mouser.vn/ProductDetail/YAGEO/AC0805JR-07910RL?qs=TI15CVqcli02BUmvoruq%252BQ%3D%3D; Supply 2 URL: https://www.digikey.com/en/products/detail/yageo/RC0805JR-07910RL/728382; Mounting Technology: SMT; Supply 3 SN: N/A; Supply 3 URL: N/A; Datasheet: N/A; Manufacture  Name: N/A; Manufacture  SN: N/A
footprint RESISTOR_0805 (Chip Resistor, 2-Leads, Body 2,00x1,20mm, IPC Medium Density)
pins: 1, 2

## 0008059121
designator R?, comment 9.1k, 1/8W
RES, 9.1k Ohm, size 0805, 1%; Resistance: 9.1k Ohms; Resistance Tolerance: +/-1%; Supply 1 Name: Mouser; Supply 1 SN: 603-RC0805FR-079K1L; Supply 2 Name: Digi-Key; Supply 2 SN: 311-9.10KCRTR-ND; Supply 3 Name: Thegioiic; Size: 0805; Rated Power: 1/8W; Supply 1 URL: https://www.mouser.vn/ProductDetail/YAGEO/RC0805FR-079K1L?qs=g6xwsc4j%252B%2Fompd1tn2M1hA%3D%3D; Supply 2 URL: https://www.digikey.com/en/products/detail/yageo/RC0805FR-079K1L/728187; Mounting Technology: SMT; Supply 3 SN: N/A; Supply 3 URL: N/A; Datasheet: N/A; Manufacture  Name: N/A; Manufacture  SN: N/A
footprint RESISTOR_0805 (Chip Resistor, 2-Leads, Body 2,00x1,20mm, IPC Medium Density)
pins: 1, 2

## 0008059125
designator R?, comment 9.1k, 1/8W
RES, 9.1k Ohm, size 0805, 5%; Resistance: 9.1k Ohms; Resistance Tolerance: +/-1%; Supply 1 Name: Mouser; Supply 1 SN: 603-AC0805JR-079K1L; Supply 2 Name: Digi-Key; Supply 2 SN: 311-9.1KARTR-ND; Supply 3 Name: Thegioiic; Size: 0805; Rated Power: 1/8W; Supply 1 URL: https://www.mouser.vn/ProductDetail/YAGEO/AC0805JR-079K1L?qs=TI15CVqcli3%252BCLfrVXRk8g%3D%3D; Supply 2 URL: https://www.digikey.com/en/products/detail/yageo/RC0805JR-079K1L/728380; Mounting Technology: SMT; Supply 3 SN: N/A; Supply 3 URL: N/A; Datasheet: N/A; Manufacture  Name: N/A; Manufacture  SN: N/A
footprint RESISTOR_0805 (Chip Resistor, 2-Leads, Body 2,00x1,20mm, IPC Medium Density)
pins: 1, 2

## 0008059131
designator R?, comment 91k, 1/8W
RES, 91k Ohm, size 0805, 1%; Resistance: 91 kOhms; Resistance Tolerance: +/-1%; Supply 1 Name: Mouser; Supply 1 SN: 603-RC0805FR-0791KL; Supply 2 Name: Digi-Key; Supply 2 SN: 311-91.0KCRTR-ND; Supply 3 Name: Thegioiic; Size: 0805; Rated Power: 1/8W; Supply 1 URL: https://www.mouser.vn/ProductDetail/YAGEO/RC0805FR-0791KL?qs=cW1D1cnQQSoc5AvjL32TnA%3D%3D; Supply 2 URL: https://www.digikey.com/en/products/detail/yageo/RC0805FR-0791KL/728202; Mounting Technology: SMT; Supply 3 SN: N/A; Supply 3 URL: N/A; Datasheet: N/A; Manufacture  Name: N/A; Manufacture  SN: N/A
footprint RESISTOR_0805 (Chip Resistor, 2-Leads, Body 2,00x1,20mm, IPC Medium Density)
pins: 1, 2

## 0008059135
designator R?, comment 91k, 1/8W
RES, 91k Ohm, size 0805, 5%; Resistance: 91k Ohms; Resistance Tolerance: +/-1%; Supply 1 Name: Mouser; Supply 1 SN: 603-RC0805JR-0791KL; Supply 2 Name: Digi-Key; Supply 2 SN: 311-91KARTR-ND; Supply 3 Name: Thegioiic; Size: 0805; Rated Power: 1/8W; Supply 1 URL: https://www.mouser.vn/ProductDetail/YAGEO/RC0805JR-0791KL?qs=fRxXYNj8ftGTTnZSFO4FNg%3D%3D; Supply 2 URL: https://www.digikey.com/en/products/detail/yageo/RC0805JR-0791KL/728385; Mounting Technology: SMT; Supply 3 SN: N/A; Supply 3 URL: N/A; Datasheet: N/A; Manufacture  Name: N/A; Manufacture  SN: N/A
footprint RESISTOR_0805 (Chip Resistor, 2-Leads, Body 2,00x1,20mm, IPC Medium Density)
pins: 1, 2

## 0008059141
designator R?, comment 910k, 1/8W
RES, 910k Ohm, size 0805, 5%; Resistance: 910 kOhms; Resistance Tolerance: +/-1%; Supply 1 Name: Mouser; Supply 1 SN: 603-AC0805FR-07910KL; Supply 2 Name: Digi-Key; Supply 2 SN: YAG3336TR-ND; Supply 3 Name: Thegioiic; Size: 0805; Rated Power: 1/8W; Supply 1 URL: https://www.mouser.vn/ProductDetail/YAGEO/AC0805FR-07910KL?qs=yhV1fb9g%2FKZRLhn2XxrNIw%3D%3D; Supply 2 URL: https://www.digikey.com/en/products/detail/yageo/RC0805FR-07910KL/5281196; Mounting Technology: SMT; Supply 3 SN: N/A; Supply 3 URL: N/A; Datasheet: N/A; Manufacture  Name: N/A; Manufacture  SN: N/A
footprint RESISTOR_0805 (Chip Resistor, 2-Leads, Body 2,00x1,20mm, IPC Medium Density)
pins: 1, 2

## 0008059145
designator R?, comment 910k, 1/8W
RES, 910k Ohm, size 0805, 5%; Resistance: 910 kOhms; Resistance Tolerance: +/-1%; Supply 1 Name: Mouser; Supply 1 SN: 603-RC0805JR-07910KL; Supply 2 Name: Digi-Key; Supply 2 SN: 311-910KARTR-ND; Supply 3 Name: Thegioiic; Size: 0805; Rated Power: 1/8W; Supply 1 URL: https://www.mouser.vn/ProductDetail/YAGEO/RC0805JR-07910KL?qs=B2whAOG%252BauuorO0T2jryyw%3D%3D; Supply 2 URL: https://www.digikey.com/en/products/detail/yageo/RC0805JR-07910KL/728383; Mounting Technology: SMT; Supply 3 SN: N/A; Supply 3 URL: N/A; Datasheet: N/A; Manufacture  Name: N/A; Manufacture  SN: N/A
footprint RESISTOR_0805 (Chip Resistor, 2-Leads, Body 2,00x1,20mm, IPC Medium Density)
pins: 1, 2

## 0008059151
designator R?, comment 9.1M, 1/8W
RES, 9.1M Ohm, size 0805, 1%; Resistance: 9.1MOhms; Resistance Tolerance: +/-1%; Supply 1 Name: Mouser; Supply 1 SN: 603-RC0805FR-079M1L; Supply 2 Name: Digi-Key; Supply 2 SN: RHM9.10MAHTR-ND; Supply 3 Name: Thegioiic; Size: 0805; Rated Power: 1/8W; Supply 1 URL: https://www.mouser.vn/ProductDetail/YAGEO/RC0805FR-079M1L?qs=g6xwsc4j%252B%2FrtXMerMKdI0g%3D%3D; Supply 2 URL: https://www.digikey.com/en/products/detail/rohm-semiconductor/KTR10EZPF9104/1983679; Mounting Technology: SMT; Supply 3 SN: N/A; Supply 3 URL: N/A; Datasheet: N/A; Manufacture  Name: N/A; Manufacture  SN: N/A
footprint RESISTOR_0805 (Chip Resistor, 2-Leads, Body 2,00x1,20mm, IPC Medium Density)
pins: 1, 2

## 0008059155
designator R?, comment 9.1M, 1/8W
RES, 9.1M Ohm, size 0805, 5%; Resistance: 9.1M Ohms; Resistance Tolerance: +/-1%; Supply 1 Name: Mouser; Supply 1 SN: 603-RC0805JR-079M1L; Supply 2 Name: Digi-Key; Supply 2 SN: 311-9.1MARTR-ND; Supply 3 Name: Thegioiic; Size: 0805; Rated Power: 1/8W; Supply 1 URL: https://www.mouser.vn/ProductDetail/YAGEO/RC0805JR-079M1L?qs=B2whAOG%252BauuKo2DW2PzpJg%3D%3D; Supply 2 URL: https://www.digikey.com/en/products/detail/yageo/RC0805JR-079M1L/728381; Mounting Technology: SMT; Supply 3 SN: N/A; Supply 3 URL: N/A; Datasheet: N/A; Manufacture  Name: N/A; Manufacture  SN: N/A
footprint RESISTOR_0805 (Chip Resistor, 2-Leads, Body 2,00x1,20mm, IPC Medium Density)
pins: 1, 2

## 0008059161
designator R?, comment 91M, 1/8W
RES, 91M Ohm, size 0805, 1%; Resistance: 91 MOhms; Resistance Tolerance: +/-1%; Supply 1 Name: Mouser; Supply 1 SN: 303-0805W8F9105T5E; Supply 2 Name: Digi-Key; Supply 3 Name: Thegioiic; Size: 0805; Rated Power: 1/8W; Supply 1 URL: https://www.mouser.vn/ProductDetail/Royalohm/0805W8F9105T5E?qs=e8oIoAS2J1SVpTnndLrZmw%3D%3D; Supply 2 SN: N/A; Supply 2 URL: N/A; Mounting Technology: SMT; Supply 3 SN: N/A; Supply 3 URL: N/A; Datasheet: N/A; Manufacture  Name: N/A; Manufacture  SN: N/A
footprint RESISTOR_0805 (Chip Resistor, 2-Leads, Body 2,00x1,20mm, IPC Medium Density)
pins: 1, 2

## 0008059165
designator R?, comment 91M, 1/8W
RES, 91M Ohm, size 0805, 5%; Resistance: 91 MOhms; Resistance Tolerance: +/-1%; Supply 1 Name: Mouser; Supply 1 SN: 603-RC0805JR-0791ML; Supply 2 Name: Digi-Key; Supply 2 SN: RC0805JR-0791ML-ND; Supply 3 Name: Thegioiic; Size: 0805; Rated Power: 1/8W; Supply 1 URL: https://www.mouser.vn/ProductDetail/YAGEO/RC0805JR-0791ML?qs=tggtontpCXPIeRGuu%252Bjt0g%3D%3D; Supply 2 URL: https://www.digikey.com/en/products/detail/yageo/RC0805JR-0791ML/5919074; Mounting Technology: SMT; Supply 3 SN: N/A; Supply 3 URL: N/A; Datasheet: N/A; Manufacture  Name: N/A; Manufacture  SN: N/A
footprint RESISTOR_0805 (Chip Resistor, 2-Leads, Body 2,00x1,20mm, IPC Medium Density)
pins: 1, 2

## 00080523235
designator R?, comment 232k, 1/8W
RES, 232k Ohm, size 0805, 5%; Manufacture  Name: Welwyn Components / TT Electronics; Manufacture  SN: LHVC0805-232KJT5; Resistance tolerance: +/-5%; Supply 1 Name: Mouser; Supply 1 SN: 756-LHVC0805-232KJT5; Supply 2 Name: Digi-Key; Supply 3 Name: Thegioiic; Size: 0805; Mounting Technology: SMT; Rated Power: 1/8 W; Datasheet: https://www.ttelectronics.com/TTElectronics/media/ProductFiles/Datasheets/LHVC.pdf; Resistance: 232k; Supply 1 URL: https://www.mouser.vn/ProductDetail/Welwyn-Components-TT-Electronics/LHVC0805-232KJT5?qs=GY4PX5ytnAjQQPp7mjLUUQ%3D%3D; Supply 2 SN: N/A; Supply 2 URL: N/A; Supply 3 SN: N/A; Supply 3 URL: N/A
footprint RESISTOR_0805 (Chip Resistor, 2-Leads, Body 2,00x1,20mm, IPC Medium Density)
pins: 1, 2

## 00080526131
designator R?, comment 261k, 1/8W
RES, 261k Ohm, size 0805, 1%; Manufacture  Name: Bourns; Manufacture  SN: CR0805-FX-2613ELF; Resistance tolerance: +/-1%; Supply 1 Name: Mouser; Supply 1 SN: 652-CR0805FX-2613ELF; Supply 2 Name: Digi-Key; Supply 2 SN: 118-CR0805-FX-2613ELFTR-ND - Tape & Reel (TR); Supply 3 Name: Thegioiic; Size: 0805; Mounting Technology: SMT; Rated Power: 1/8 W; Datasheet: https://www.mouser.vn/datasheet/2/54/cr-1858361.pdf; Resistance: 261k; Supply 1 URL: https://www.mouser.vn/ProductDetail/Bourns/CR0805-FX-2613ELF?qs=4vGXhLEMbUxDnPXNgaMzmw%3D%3D; Supply 2 URL: https://www.digikey.com/en/products/detail/bourns-inc/CR0805-FX-2613ELF/3784800; Supply 3 SN: N/A; Supply 3 URL: N/A
footprint RESISTOR_0805 (Chip Resistor, 2-Leads, Body 2,00x1,20mm, IPC Medium Density)
pins: 1, 2

## 00080526135
designator R?, comment 261k, 1/8W
RES, 261k Ohm, size 0805, 5%; Manufacture  Name: Welwyn Components / TT Electronics; Manufacture  SN: LHVC0805-261KJT5; Resistance tolerance: +/-5%; Supply 1 Name: Mouser; Supply 1 SN: 756-LHVC0805-261KJT5; Supply 2 Name: Digi-Key; Supply 3 Name: Thegioiic; Size: 0805; Mounting Technology: SMT; Rated Power: 1/8 W; Datasheet: https://www.ttelectronics.com/TTElectronics/media/ProductFiles/Datasheets/LHVC.pdf; Resistance: 261k; Supply 1 URL: https://www.mouser.vn/ProductDetail/Welwyn-Components-TT-Electronics/LHVC0805-261KJT5?qs=GY4PX5ytnAhEaqCyRTPbhQ%3D%3D; Supply 2 SN: N/A; Supply 2 URL: N/A; Supply 3 SN: N/A; Supply 3 URL: N/A
footprint RESISTOR_0805 (Chip Resistor, 2-Leads, Body 2,00x1,20mm, IPC Medium Density)
pins: 1, 2

## 00080529401
designator R?, comment 294, 1/8W
RES, 294 Ohm, size 0805, 1%; Manufacture  Name: Panasonic; Manufacture  SN: ERJ-6ENF2940V; Resistance tolerance: +/-1%; Resistance: 294; Supply 1 Name: Mouser; Supply 1 SN: 667-ERJ-6ENF2940V; Supply 2 Name: Digi-Key; Supply 2 SN: P294CTR-ND - Tape & Reel (TR); Supply 3 Name: Thegioiic; Size: 0805; Mounting Technology: SMT; Rated Power: 1/8 W; Datasheet: https://www.mouser.vn/datasheet/2/315/AOA0000C304-1149620.pdf; Supply 1 URL: https://www.mouser.vn/ProductDetail/Panasonic/ERJ-6ENF2940V?qs=50QC8w71jAvukmJpZ9Lw1g%3D%3D; Supply 2 URL: https://www.digikey.com/en/products/detail/panasonic-electronic-components/ERJ-6ENF2940V/111179; Supply 3 SN: N/A; Supply 3 URL: N/A
footprint RESISTOR_0805 (Chip Resistor, 2-Leads, Body 2,00x1,20mm, IPC Medium Density)
pins: 1, 2

## 00080529431
designator R?, comment 294k, 1/8W
RES, 294k Ohm, size 0805, 1%; Manufacture  Name: Bourns; Manufacture  SN: CR0805-FX-2943ELF; Resistance tolerance: +/-1%; Supply 1 Name: Mouser; Supply 1 SN: 652-CR0805FX-2943ELF; Supply 2 Name: Digi-Key; Supply 2 SN: 118-CR0805-FX-2943ELFTR-ND - Tape & Reel (TR); Supply 3 Name: Thegioiic; Size: 0805; Mounting Technology: SMT; Rated Power: 1/8 W; Datasheet: https://www.mouser.vn/datasheet/2/54/cr-1858361.pdf; Resistance: 294k; Supply 1 URL: https://www.mouser.vn/ProductDetail/YAGEO/AC0805FR-07261RL?qs=UBLIud9aIG3KLDcxZj7pBg%3D%3D; Supply 2 URL: https://www.digikey.com/en/products/detail/bourns-inc/CR0805-FX-2943ELF/3784832; Supply 3 SN: N/A; Supply 3 URL: N/A
footprint RESISTOR_0805 (Chip Resistor, 2-Leads, Body 2,00x1,20mm, IPC Medium Density)
pins: 1, 2

## 00080529435
designator R?, comment 294k, 1/8W
RES, 294k Ohm, size 0805, 5%; Manufacture  Name: Welwyn Components / TT Electronics; Manufacture  SN: LHVC0805-294KJT5; Resistance tolerance: +/-5%; Supply 1 Name: Mouser; Supply 1 SN: 756-LHVC0805-294KJT5; Supply 2 Name: Digi-Key; Supply 3 Name: Thegioiic; Size: 0805; Mounting Technology: SMT; Rated Power: 1/8 W; Datasheet: https://www.ttelectronics.com/TTElectronics/media/ProductFiles/Datasheets/LHVC.pdf; Resistance: 294k; Supply 1 URL: https://www.mouser.vn/ProductDetail/Welwyn-Components-TT-Electronics/LHVC0805-294KJT5?qs=GY4PX5ytnAjG5%252BRJuXIg7w%3D%3D; Supply 2 SN: N/A; Supply 2 URL: N/A; Supply 3 SN: N/A; Supply 3 URL: N/A
footprint RESISTOR_0805 (Chip Resistor, 2-Leads, Body 2,00x1,20mm, IPC Medium Density)
pins: 1, 2

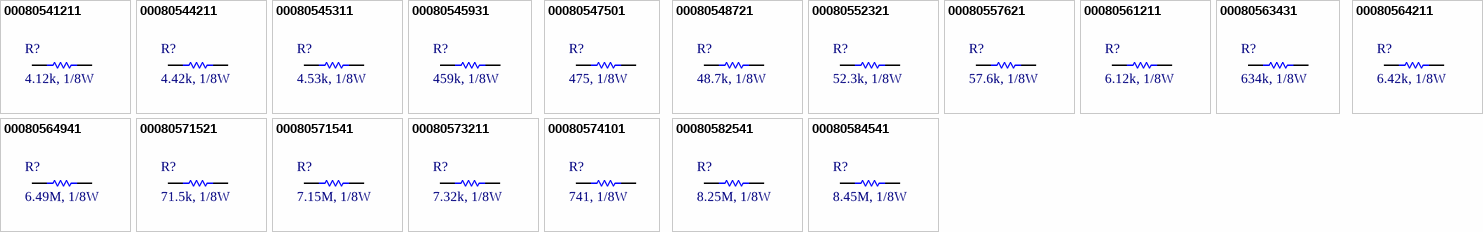
[diagram p6: symbols 00080541211 to 00080584541]

## 00080541211
designator R?, comment 4.12k, 1/8W
RES, 4.12k Ohm, size 0805, 1%; Manufacture  Name: Panasonic; Manufacture  SN: ERJ-U06F4121V; Resistance tolerance: +/-1%; Supply 1 Name: Mouser; Supply 1 SN: 667-ERJ-U06F4121V; Supply 2 Name: Digi-Key; Supply 2 SN: P4.12KCTR-ND - Tape & Reel (TR); Supply 3 Name: Thegioiic; Size: 0805; Mounting Technology: SMT; Rated Power: 1/8 W; Datasheet: https://www.mouser.vn/datasheet/2/315/AOA0000C334-1314047.pdf; Resistance: 4.12k; Supply 1 URL: https://www.mouser.vn/ProductDetail/Panasonic/ERJ-U06F4121V?qs=Yyy8avaXlIsQpLxN%2Fe1aQA%3D%3D; Supply 2 URL: https://www.digikey.com/en/products/detail/panasonic-electronic-components/ERJ-6ENF4121V/111401; Supply 3 SN: N/A; Supply 3 URL: N/A
footprint RESISTOR_0805 (Chip Resistor, 2-Leads, Body 2,00x1,20mm, IPC Medium Density)
pins: 1, 2

## 00080544211
designator R?, comment 4.42k, 1/8W
RES, 4.42k Ohm, size 0805, 1%; Resistance: 4.42 kOhms; Resistance Tolerance: +/-1%; Supply 1 Name: Mouser; Supply 1 SN: 652-CR0805FX-4421ELF; Supply 2 Name: Digi-Key; Supply 2 SN: 311-4.42KCRDKR-ND; Supply 3 Name: Thegioiic; Size: 0805; Rated Power: 1/8W; Supply 1 URL: https://www.mouser.vn/ProductDetail/Bourns/CR0805-FX-4421ELF?qs=sGAEpiMZZMtG0KNrPCHnjfC2zYK6Lg3%2FrXlYMryvIvo%3D; Supply 2 URL: https://www.digikey.com/en/products/detail/yageo/RC0805FR-074K42L/727920; Supply 3 SN: N/A; Supply 3 URL: https://www.thegioiic.com/dien-tro-44-2-kohm-0805-1; Mounting Technology: SMT; Datasheet: N/A; Manufacture  Name: N/A; Manufacture  SN: N/A
footprint RESISTOR_0805 (Chip Resistor, 2-Leads, Body 2,00x1,20mm, IPC Medium Density)
pins: 1, 2

## 00080545311
designator R?, comment 4.53k, 1/8W
RES, 4.53k Ohm, size 0805, 1%; Resistance: 4.53 kOhms; Resistance Tolerance: +/-1%; Supply 1 Name: Mouser; Supply 1 SN: 652-CR0805FX-4532ELF; Supply 2 Name: Digi-Key; Supply 2 SN: 311-45.3KCRDKR-ND; Supply 3 Name: Thegioiic; Size: 0805; Rated Power: 1/8W; Supply 1 URL: https://www.mouser.vn/ProductDetail/Bourns/CR0805-FX-4532ELF?qs=sGAEpiMZZMtG0KNrPCHnjfC2zYK6Lg3%2F1%2Fel6VE8vT0%3D; Supply 2 URL: https://www.digikey.com/en/products/detail/yageo/RC0805FR-0745K3L/727965; Mounting Technology: SMT; Supply 3 SN: N/A; Supply 3 URL: N/A; Datasheet: N/A; Manufacture  Name: N/A; Manufacture  SN: N/A
footprint RESISTOR_0805 (Chip Resistor, 2-Leads, Body 2,00x1,20mm, IPC Medium Density)
pins: 1, 2

## 00080545931
designator R?, comment 459k, 1/8W
RES, 459k Ohm, size 0805, 1%; Resistance: 459 kOhms; Resistance Tolerance: +/-1%; Supply 1 Name: Mouser; Supply 2 Name: Digi-Key; Supply 2 SN: RMCF0805FT4K30DKR-ND; Supply 3 Name: Thegioiic; Size: 0805; Rated Power: 1/8W; Supply 1 SN: N/A; Supply 1 URL: N/A; Supply 2 URL: https://www.digikey.com/en/products/detail/stackpole-electronics-inc/RMCF0805FT4K30/1760198; Mounting Technology: SMT; Supply 3 SN: N/A; Supply 3 URL: N/A; Datasheet: N/A; Manufacture  Name: N/A; Manufacture  SN: N/A
footprint RESISTOR_0805 (Chip Resistor, 2-Leads, Body 2,00x1,20mm, IPC Medium Density)
pins: 1, 2

## 00080547501
designator R?, comment 475, 1/8W
RES, 475 Ohm, size 0805, 1%; Resistance: 475 Ohms; Resistance Tolerance: +/-1%; Supply 1 Name: Mouser; Supply 1 SN: 660-RK73G2ARTTD4750F; Supply 2 Name: Digi-Key; Supply 2 SN: 311-475CRDKR-ND; Supply 3 Name: Thegioiic; Size: 0805; Rated Power: 1/8W; Supply 1 URL: https://www.mouser.vn/ProductDetail/KOA-Speer/RK73G2ARTTD4750F?qs=sGAEpiMZZMtG0KNrPCHnjRpfexHZHoPICGbTAoMU%2F0TGfwzA89isyQ%3D%3D; Supply 2 URL: https://www.digikey.com/en/products/detail/yageo/RC0805FR-07475RL/727978; Mounting Technology: SMT; Supply 3 SN: N/A; Supply 3 URL: N/A; Datasheet: N/A; Manufacture  Name: N/A; Manufacture  SN: N/A
footprint RESISTOR_0805 (Chip Resistor, 2-Leads, Body 2,00x1,20mm, IPC Medium Density)
pins: 1, 2

## 00080548721
designator R?, comment 48.7k, 1/8W
RES, 48.7k Ohm, size 0805, 1%; Resistance: 48.7 kOhms; Resistance Tolerance: +/-1%; Supply 1 Name: Mouser; Supply 1 SN: 652-CR0805FX-4872ELF; Supply 2 Name: Digi-Key; Supply 2 SN: P48.7KCDKR-ND; Supply 3 Name: Thegioiic; Size: 0805; Rated Power: 1/8W; Supply 1 URL: https://www.mouser.vn/ProductDetail/Bourns/CR0805-FX-4872ELF?qs=sGAEpiMZZMtlubZbdhIBIL%252BKkaYz7rs3OXEDnL6C198%3D; Supply 2 URL: https://www.digikey.com/en/products/detail/panasonic-electronic-components/ERJ-6ENF4872V/111609; Mounting Technology: SMT; Supply 3 SN: N/A; Supply 3 URL: N/A; Datasheet: N/A; Manufacture  Name: N/A; Manufacture  SN: N/A
footprint RESISTOR_0805 (Chip Resistor, 2-Leads, Body 2,00x1,20mm, IPC Medium Density)
pins: 1, 2

## 00080552321
designator R?, comment 52.3k, 1/8W
RES, 52.3k Ohm, size 0805, 1%; Resistance: 52.3 kOhms; Resistance Tolerance: +/-1%; Supply 1 Name: Mouser; Supply 1 SN: 667-ERJ-6ENF5232V; Supply 2 Name: Digi-Key; Supply 2 SN: 311-52.3KCRDKR-ND; Supply 3 Name: Thegioiic; Size: 0805; Rated Power: 1/8W; Supply 1 URL: https://www.mouser.vn/ProductDetail/Panasonic/ERJ-6ENF5232V?qs=sGAEpiMZZMtlubZbdhIBIGigBIB3A6R9zBn5%252BDYL6RA%3D; Supply 2 URL: https://www.digikey.com/en/products/detail/yageo/RC0805FR-0752K3L/728021; Mounting Technology: SMT; Supply 3 SN: N/A; Supply 3 URL: N/A; Datasheet: N/A; Manufacture  Name: N/A; Manufacture  SN: N/A
footprint RESISTOR_0805 (Chip Resistor, 2-Leads, Body 2,00x1,20mm, IPC Medium Density)
pins: 1, 2

## 00080557621
designator R?, comment 57.6k, 1/8W
RES, 57.6k Ohm, size 0805, 1%; Resistance: 57.6 kOhms; Resistance Tolerance: +/-1%; Supply 1 Name: Mouser; Supply 1 SN: 667-ERJ-6ENF5762V; Supply 2 Name: Digi-Key; Supply 2 SN: 311-57.6KCRDKR-ND; Supply 3 Name: Thegioiic; Size: 0805; Rated Power: 1/8W; Supply 1 URL: https://www.mouser.vn/ProductDetail/Panasonic/ERJ-6ENF5762V?qs=sGAEpiMZZMtlubZbdhIBIGigBIB3A6R9NhH0M6W9sy4%3D; Supply 2 URL: https://www.digikey.com/en/products/detail/yageo/RC0805FR-0757K6L/728041; Mounting Technology: SMT; Supply 3 SN: N/A; Supply 3 URL: N/A; Datasheet: N/A; Manufacture  Name: N/A; Manufacture  SN: N/A
footprint RESISTOR_0805 (Chip Resistor, 2-Leads, Body 2,00x1,20mm, IPC Medium Density)
pins: 1, 2

## 00080561211
designator R?, comment 6.12k, 1/8W
RES, 6.12k Ohm, size 0805, 1%; Resistance: 6.12 kOhms; Resistance Tolerance: +/-1%; Supply 1 Name: Mouser; Supply 2 Name: Digi-Key; Supply 2 SN: 2019-RN73R2ATTD6121F25TR-ND; Supply 3 Name: Thegioiic; Size: 0805; Rated Power: 1/8W; Supply 1 SN: N/A; Supply 1 URL: N/A; Supply 2 URL: https://www.digikey.com/en/products/detail/koa-speer-electronics-inc/RN73R2ATTD6121F25/10035242; Mounting Technology: SMT; Supply 3 SN: N/A; Supply 3 URL: N/A; Datasheet: N/A; Manufacture  Name: N/A; Manufacture  SN: N/A
footprint RESISTOR_0805 (Chip Resistor, 2-Leads, Body 2,00x1,20mm, IPC Medium Density)
pins: 1, 2

## 00080563431
designator R?, comment 634k, 1/8W
RES, 634k Ohm, size 0805, 1%; Resistance: 634 kOhms; Resistance Tolerance: +/-1%; Supply 1 Name: Mouser; Supply 1 SN: 603-RT0805FRE07634KL; Supply 2 Name: Digi-Key; Supply 2 SN: 311-634KCRTR-ND; Supply 3 Name: Thegioiic; Size: 0805; Rated Power: 1/8W; Supply 1 URL: https://www.mouser.vn/ProductDetail/YAGEO/RT0805FRE07634KL?qs=4CyHz7GXqSgfSiXMWNQNIg%3D%3D; Supply 2 URL: https://www.digikey.com/en/products/detail/yageo/RC0805FR-07634KL/728088; Mounting Technology: SMT; Supply 3 SN: N/A; Supply 3 URL: N/A; Datasheet: N/A; Manufacture  Name: N/A; Manufacture  SN: N/A
footprint RESISTOR_0805 (Chip Resistor, 2-Leads, Body 2,00x1,20mm, IPC Medium Density)
pins: 1, 2

## 00080564211
designator R?, comment 6.42k, 1/8W
RES, 6.42k Ohm, size 0805, 1%; Resistance: 6.42 kOhms; Resistance Tolerance: +/-1%; Supply 1 Name: Mouser; Supply 2 Name: Digi-Key; Supply 2 SN: 2019-RN73R2ATTD6421F100TR-ND; Supply 3 Name: Thegioiic; Size: 0805; Rated Power: 1/8W; Supply 1 SN: N/A; Supply 1 URL: N/A; Supply 2 URL: https://www.digikey.com/en/products/detail/koa-speer-electronics-inc/RN73R2ATTD6421F100/10035641; Mounting Technology: SMT; Supply 3 SN: N/A; Supply 3 URL: N/A; Datasheet: N/A; Manufacture  Name: N/A; Manufacture  SN: N/A
footprint RESISTOR_0805 (Chip Resistor, 2-Leads, Body 2,00x1,20mm, IPC Medium Density)
pins: 1, 2